# Altium footprint library Soldeerstation.PcbLib: 40 footprints (part 3 of 3)
Each footprint in its own frame and in the unit in brackets; x right, y up, seen from the top. Pads: shape width x height; smd on the part's side, far side on the other; paste and mask are expansions set on the pad; w line width, h text height; cw(c..) or ccw(c..) is an arc to the next point about the centre after c.
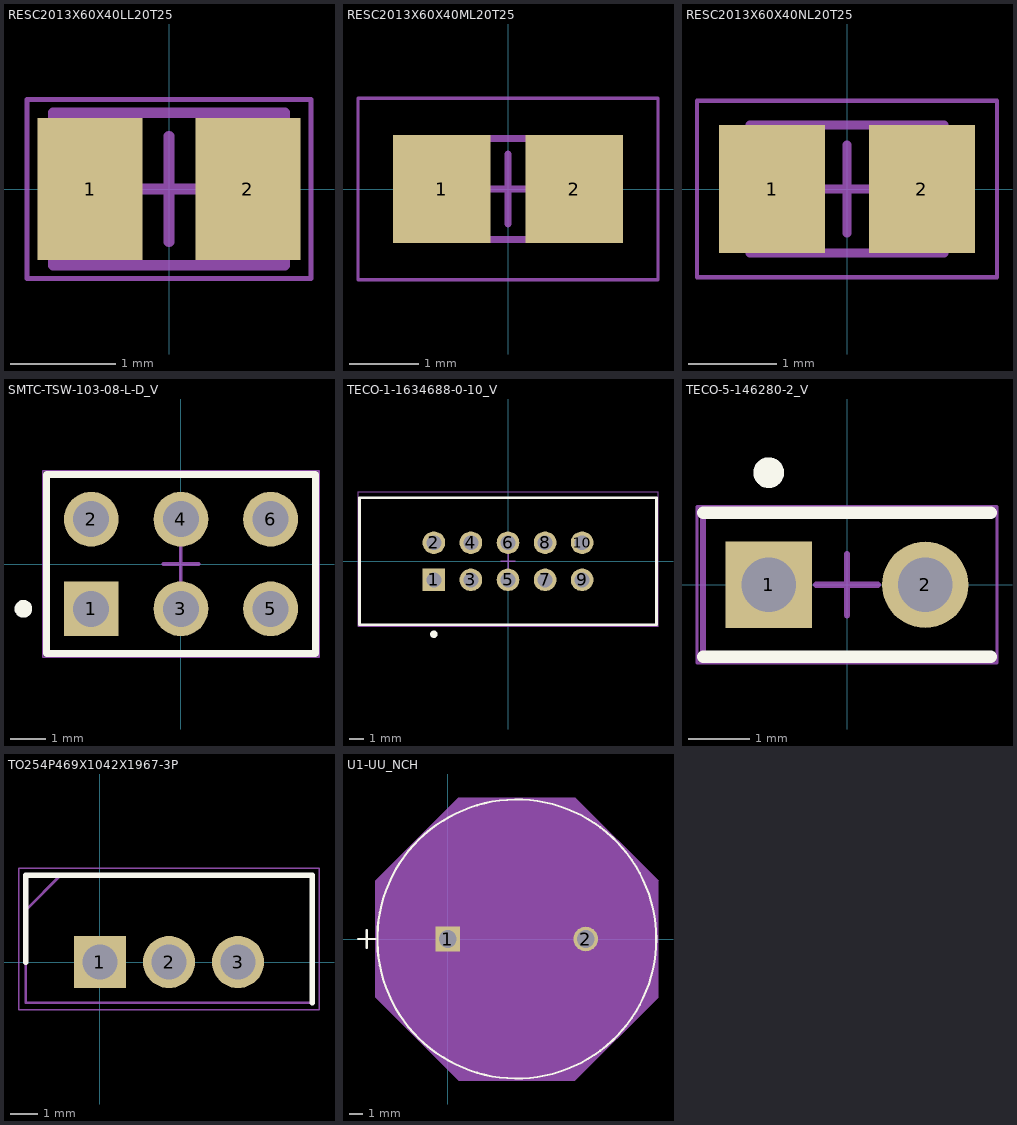
[diagram p2: the footprints below, top view; thin cyan lines are the x and y axes]

## RESC2013X60X40LL20T25 [mm] "Chip Resistor, 2-Leads, Body 2.00x1.25mm, IPC High Density"
height 0.6
pads (2):
  rect 1x1.35 smd: 1(-0.75,0) 2(0.75,0)
Top 3D Body:
  lines w0.1: -1.1,-0.725 -1.1,0.725 1.1,0.725 1.1,-0.725 -1.1,-0.725
Top Courtyard:
  lines w0.05: -1.35,-0.85 -1.35,0.85 1.35,0.85 1.35,-0.85 -1.35,-0.85
  lines w0.1: -0.5,0 0.5,0 ; 0,-0.5 0,0.5
3D body: height 0.6, standoff 0, extent -0.7,-0.725 0.7,0.725
3D body: height 0.6, standoff 0, extent -1.1,-0.725 -0.7,0.725
3D body: height 0.6, standoff 0, extent 0.7,-0.725 1.1,0.725

## RESC2013X60X40ML20T25 [mm] "Chip Resistor, 2-Leads, Body 2.00x1.25mm, IPC Low Density"
height 0.6
pads (2):
  rect 1.4x1.55 smd: 1(-0.95,0) 2(0.95,0)
Top 3D Body:
  lines w0.1: -1.1,-0.725 1.1,-0.725 1.1,0.725 -1.1,0.725 -1.1,-0.725
Top Courtyard:
  lines w0.05: -2.15,-1.3 2.15,-1.3 2.15,1.3 -2.15,1.3 -2.15,-1.3
  lines w0.1: -0.5,0 0.5,0 ; 0,-0.5 0,0.5
3D body: height 0.6, standoff 0, extent 0.7,-0.725 1.1,0.725
3D body: height 0.6, standoff 0, extent -1.1,-0.725 -0.7,0.725
3D body: height 0.6, standoff 0, extent -0.7,-0.725 0.7,0.725

## RESC2013X60X40NL20T25 [mm] "Chip Resistor, 2-Leads, Body 2.00x1.25mm, IPC Medium Density"
height 0.6
pads (2):
  rect 1.2x1.45 smd: 1(-0.85,0) 2(0.85,0)
Top 3D Body:
  lines w0.1: -1.1,-0.725 -1.1,0.725 1.1,0.725 1.1,-0.725 -1.1,-0.725
Top Courtyard:
  lines w0.05: -1.7,-1 -1.7,1 1.7,1 1.7,-1 -1.7,-1
  lines w0.1: -0.5,0 0.5,0 ; 0,-0.5 0,0.5
3D body: height 0.6, standoff 0, extent -0.7,-0.725 0.7,0.725
3D body: height 0.6, standoff 0, extent -1.1,-0.725 -0.7,0.725
3D body: height 0.6, standoff 0, extent 0.7,-0.725 1.1,0.725

## SMTC-TSW-103-08-L-D_V [mm] "CONN, 6-Leads, Body 7.62x5.08mm, Pitch 2.54mm"
height 8.38
pads (6):
  rect 1.55x1.55 hole 1.02: 1(-2.54,-1.27)
  round 1.55 hole 1.02: 2(-2.54,1.27) 3(0,-1.27) 4(0,1.27) 5(2.54,-1.27) 6(2.54,1.27)
Top Overlay:
  circle w0.25: c-4.46,-1.27 r0.125
  lines w0.2: -3.81,-2.54 -3.81,2.54 3.81,2.54 3.81,-2.54 -3.81,-2.54
Top 3D Body:
  lines w0.1: -3.81,-2.54 -3.81,2.54 3.81,2.54 3.81,-2.54 -3.81,-2.54
Top Courtyard:
  lines w0.05: -3.91,-2.64 -3.91,2.64 3.91,2.64 3.91,-2.64 -3.91,-2.64
  lines w0.1: -0.5,0 0.5,0 ; 0,-0.5 0,0.5
3D body "TSW-103-08-L-D.stp": height 8.38, standoff -5.08, extent -3.81,-2.54 3.81,2.54

## TECO-1-1634688-0-10_V [mm] "10-Pin Connector, Body 20.35x8.7mm, Pitch 2.54mm"
height 9.15
pads (10):
  rect 1.55x1.55 hole 1.02: 1(-5.08,-1.27)
  round 1.55 hole 1.02: 2(-5.08,1.27) 3(-2.54,-1.27) 4(-2.54,1.27) 5(0,-1.27) 6(0,1.27) 7(2.54,-1.27) 8(2.54,1.27) 9(5.08,-1.27) 10(5.08,1.27)
Top Overlay:
  circle w0.25: c-5.08,-5 r0.125
  lines w0.2: -10.175,-4.35 10.175,-4.35 10.175,4.35 -10.175,4.35 -10.175,-4.35
Top 3D Body:
  lines w0.1: -10.175,-4.35 10.175,-4.35 10.175,4.35 -10.175,4.35 -10.175,-4.35
Top Courtyard:
  lines w0.05: -10.275,-4.45 10.275,-4.45 10.275,4.75 -10.275,4.75 -10.275,-4.45
  lines w0.1: -0.5,0 0.5,0 ; 0,-0.5 0,0.5
3D body "c-1634688-10-c-3d.stp": height 9, standoff -3.15, extent -10.175,-4.35 10.175,4.65

## TECO-5-146280-2_V [mm] "Connector, 2-Leads, Body 4.67x2.34mm, Pitch 2.54mm"
height 8.21
pads (2):
  rect 1.4x1.4 hole 0.89: 1(-1.27,0)
  round 1.4 hole 0.89: 2(1.27,0)
Top Overlay:
  circle w0.25: c-1.27,1.82 r0.125
  lines w0.2: -2.335,-1.17 2.335,-1.17 ; -2.335,1.17 2.335,1.17
Top 3D Body:
  lines w0.1: 2.335,-1.17 -2.335,-1.17 -2.335,1.17 2.335,1.17
Top Courtyard:
  lines w0.05: -2.435,-1.27 -2.435,1.27 2.435,1.27 2.435,-1.27 -2.435,-1.27
  lines w0.1: -0.5,0 0.5,0 ; 0,-0.5 0,0.5
3D body "c-5-146280-2-d-3d.stp": height 5.33, standoff -5.84, extent -2.337,-1.168 2.337,1.169

## TO254P469X1042X1967-3P [mm]
pads (3):
  rect 1.92x1.92 / inner round 1.92 / far side rect 1.92x1.92 hole 1.28: 1(0,0)
  round 1.92 hole 1.28: 2(2.54,0) 3(5.08,0)
Top Overlay:
  lines w0.2: -2.73,0 -2.73,3.195 7.81,3.195 7.81,-1.495
Top Courtyard:
  lines w0.1: -2.73,1.925 -1.46,3.195 ; -2.73,-1.495 7.81,-1.495 7.81,3.195 -2.73,3.195 -2.73,-1.495
Bottom Assembly:
  lines w0.05: -2.98,-1.745 8.06,-1.745 8.06,3.445 -2.98,3.445 -2.98,-1.745
3D body "IRF9Z34NPBF.stp": height 5.8, standoff -4.65, extent -10,-3.376 10,3.376

## U1-UU_NCH [mil]
pads (2):
  rect 70x70 / inner round 60 / far side rect 70x70 hole 50 paste-35 mask+0: 1(0,0)
  round 70 / inner round 60 / far side round 70 hole 50 paste-35 mask+0: 2(394,0)
Top Overlay:
  circle w6: c197,0 r398.5
  lines w6: -256.5,0 -206.5,0 ; -231.5,-25 -231.5,25
Top 3D Body:
  circle w0: c197,0 r393.5
  lines w1: -256.5,0 -206.5,0 ; -231.5,-25 -231.5,25
Top Courtyard:
  region: -206.5,166.15 30.85,403.5 363.15,403.5 600.5,166.15 600.5,-166.15 363.15,-403.5 30.85,-403.5 -206.5,-166.15
  lines w1: -206.5,-166.15 30.85,-403.5 363.15,-403.5 600.5,-166.15 600.5,166.15 363.15,403.5 30.85,403.5 -206.5,166.15 -206.5,-166.15
3D body "U1-UU_NCH.step": height 1565.63, standoff -220, extent -196.5,-393.28 591.06,393.28